# Altium footprint library TH Switches.PcbLib: 37 footprints (part 2 of 3)
Each footprint in its own frame and in the unit in brackets; x right, y up, seen from the top. Pads: shape width x height; smd on the part's side, far side on the other; paste and mask are expansions set on the pad; w line width, h text height; cw(c..) or ccw(c..) is an arc to the next point about the centre after c.
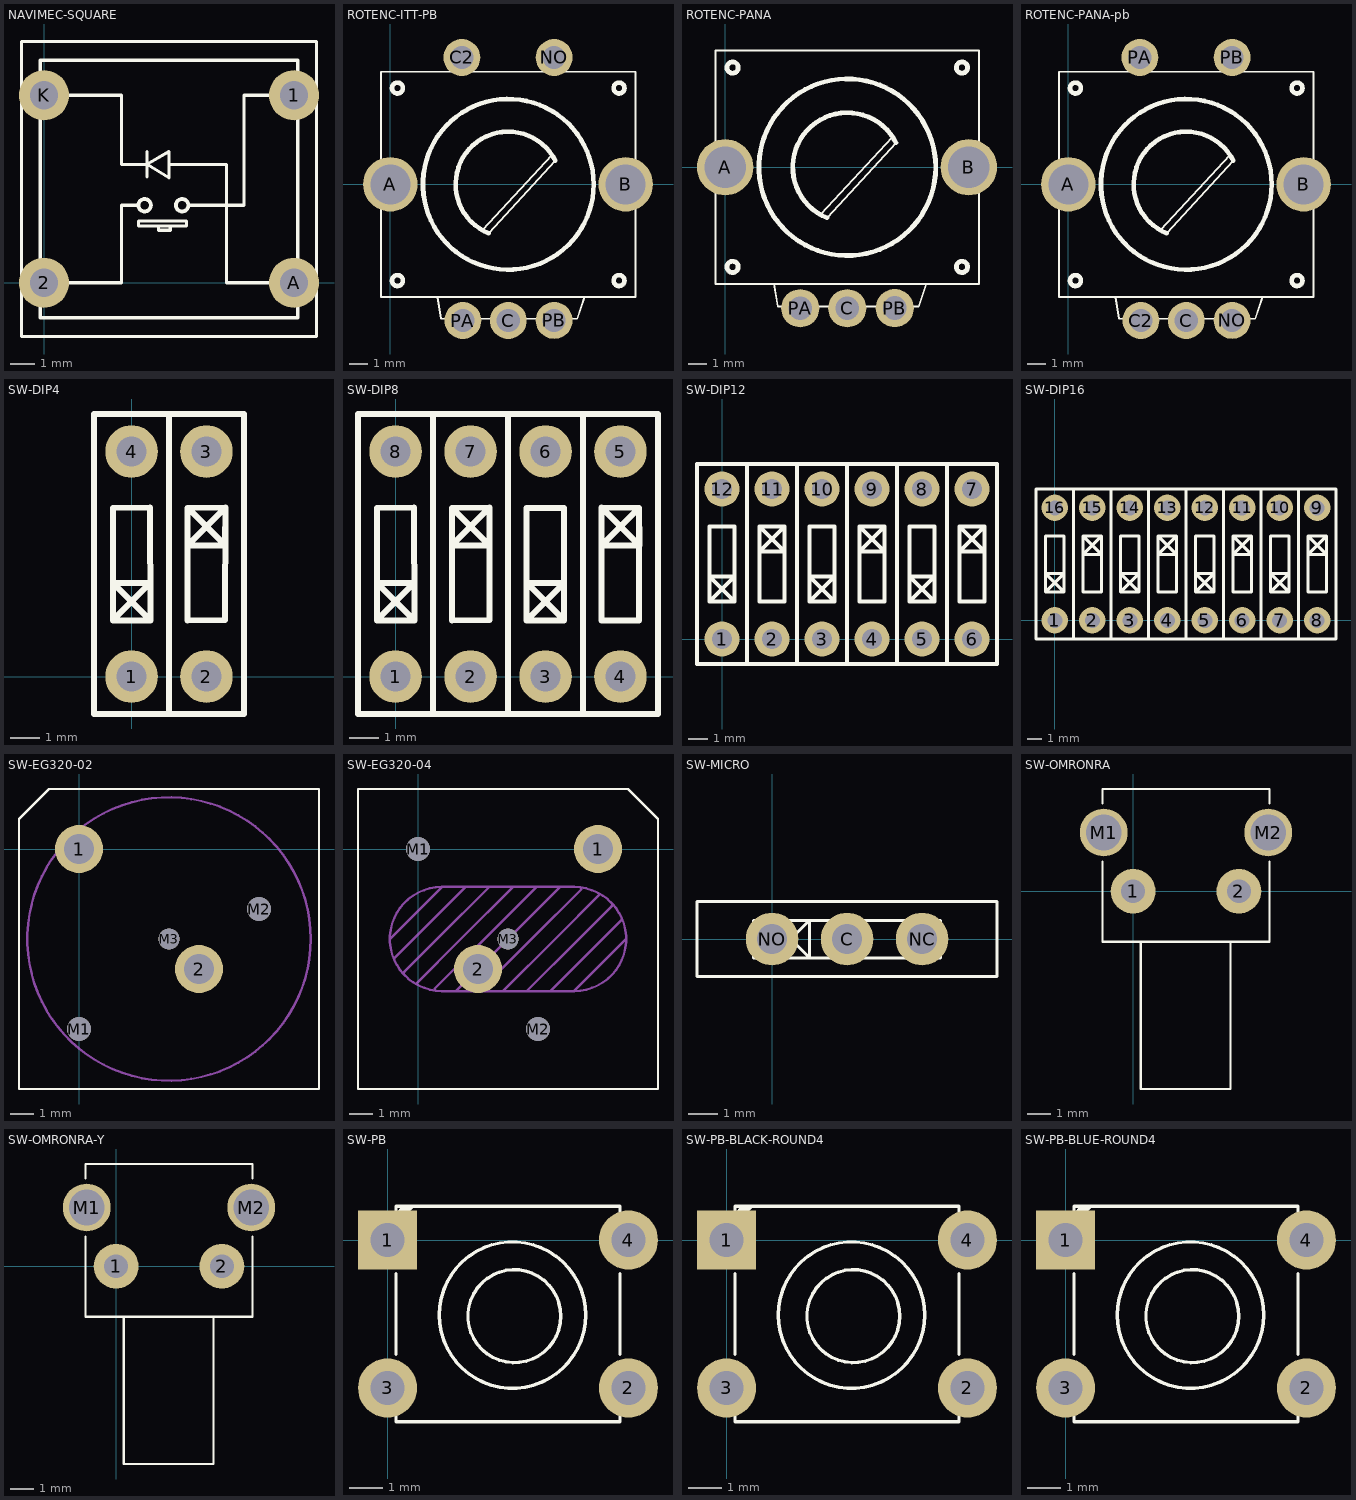
[diagram p1: the footprints below, top view; thin cyan lines are the x and y axes]

## NAVIMEC-SQUARE [mil]
pads (4):
  round 80 hole 45: 1(400,300) 2(0,0) A(400,0) K(0,300)
Top Overlay:
  circle w6: c161,124 r10
  circle w6: c221,124 r10
  lines w5: 0,0 124,0 124,124 151,124 ; 0,300 124,300 124,189.5 165,189.5 ; 165,169 165,210 ; 183,90 183,84 202,84 202,90 ; 200,189 292,189 292,0 400,0 ; 231,124 320,124 320,300 400,300 ; 165,189.5 200,210 200,168 165,189.5 ; -36,-86 -36,386 436,386 436,-86 -36,-86 ; -6,-56 10,-56 403,-56 406,-56 406,-51 406,-40 406,353 406,356 390,356 -3,356 -6,356 -6,351 -6,340 -6,-53 -6,-56 ; 151,91 228,91 228,99 151,99 151,91
3D body: height 588.43, standoff -153.54, extent -35.4,-88.4 439.4,386.4

## ROTENC-ITT-PB [mil]
pads (7):
  round 118.11 hole 86.61: A(0,0) B(510,0)
  round 80 hole 50: C(255.59,-295.28) C2(155,275) NO(355,275) PA(157.16,-295.28) PB(355,-295)
Top Overlay:
  circle w10: c495.75,-208.66 r11.81
  circle w10: c15.43,-208.66 r11.81
  circle w10: c495.75,208.66 r11.81
  circle w10: c15.43,208.66 r11.81
  circle w10: c255.59,0 r185.04
  lines w4: -20,0 -20,244.09 ; 102.05,-244.09 109.92,-291.34 405.2,-291.34 420.94,-244.09 ; 200.47,-98.43 350.08,62.99 ; 213.19,-106.01 357.71,51.06 ; -20,244.09 -20,-244.09 531.18,-244.09 531.18,244.09 -20,244.09
  lines w10: 213.19,-106.01 cw(c255.59,0) 357.71,51.06

## ROTENC-PANA [mil]
pads (5):
  round 118.11 hole 86.61: A(0,0) B(510,0)
  round 80 hole 50: C(255.59,-295.28) PA(157.16,-295.28) PB(355,-295)
Top Overlay:
  circle w10: c255.59,0 r185.04
  circle w10: c15.43,208.66 r11.81
  circle w10: c495.75,208.66 r11.81
  circle w10: c15.43,-208.66 r11.81
  circle w10: c495.75,-208.66 r11.81
  lines w4: -20,0 -20,244.09 ; 102.05,-244.09 109.92,-291.34 405.2,-291.34 420.94,-244.09 ; 200.47,-98.43 350.08,62.99 ; 213.19,-106.01 357.71,51.06 ; -20,244.09 531.18,244.09 531.18,-244.09 -20,-244.09 -20,244.09
  lines w10: 213.19,-106.01 cw(c255.59,0) 357.71,51.06

## ROTENC-PANA-pb [mil]
pads (7):
  round 118.11 hole 86.61: A(0,0) B(510,0)
  round 80 hole 50: C(255.59,-295.28) C2(157.16,-295.28) NO(355,-295) PA(155,275) PB(355,275)
Top Overlay:
  circle w10: c495.75,-208.66 r11.81
  circle w10: c15.43,-208.66 r11.81
  circle w10: c495.75,208.66 r11.81
  circle w10: c15.43,208.66 r11.81
  circle w10: c255.59,0 r185.04
  lines w4: -20,0 -20,244.09 ; 102.05,-244.09 109.92,-291.34 405.2,-291.34 420.94,-244.09 ; 200.47,-98.43 350.08,62.99 ; 213.19,-106.01 357.71,51.06 ; -20,244.09 -20,-244.09 531.18,-244.09 531.18,244.09 -20,244.09
  lines w10: 213.19,-106.01 cw(c255.59,0) 357.71,51.06

## SW-DIP4 [mil] "DIP SWITCH DIP4"
pads (4):
  round 70 hole 40: 1(0,0) 2(100,0) 3(100,300) 4(0,300)
Top Overlay:
  lines w8: 50,-50 50,350 ; -25,75 25,75 ; -25,75 -25,225 25,225 25,75 ; -25,75 -25,125 ; -25,75 25,125 -25,125 ; -25,75 -25,125 ; -25,125 25,75 ; 75,225 75,75 125,75 125,225 ; 75,225 125,225 ; 75,225 125,175 ; 125,175 75,175 125,225 ; 125,175 125,225 ; 150,-50 -50,-50 -50,350 150,350 ; 150,-50 150,350 ; 150,-50 150,350
3D body: height 150, standoff 0, extent -50,-50 150,350
3D body: height 151, standoff 0, extent -25,75 25,225
3D body: height 200, standoff 0, extent -50,-50 150,75
3D body: height 200, standoff 0, extent -50,225 150,350
3D body: height 200, standoff 0, extent 25,75 75,225
3D body: height 200, standoff 0, extent -50,75 -25,225
3D body: height 200, standoff 0, extent 125,75 150,225
3D body: height 151, standoff 0, extent 75,75 125,225
3D body: height 250, standoff 50, extent -25,75 25,125
3D body: height 250, standoff 50, extent 75,175 125,225
3D body: height 201, standoff 200, extent -20.49,255 30.49,330.98
3D body: height 201, standoff 200, extent 55,255.49 105,330.49

## SW-DIP8 [mil]
pads (8):
  round 70 hole 40: 1(0,0) 2(100,0) 3(200,0) 4(300,0) 5(300,300) 6(200,300) 7(100,300) 8(0,300)
Top Overlay:
  lines w8: 50,-50 50,350 ; 250,-50 250,350 ; -25,75 -25,125 ; -25,75 25,125 -25,125 ; -25,75 -25,125 ; -25,75 -25,225 25,225 25,75 ; -25,75 25,75 ; -25,125 25,75 ; 75,225 125,175 ; 75,225 125,225 ; 75,225 75,75 125,75 125,225 ; 125,175 125,225 ; 125,175 75,175 125,225 ; 150,-50 150,350 ; 150,-50 350,-50 ; 150,-50 150,350 ; 150,-50 -50,-50 -50,350 150,350 ; 150,350 350,350 ; 175,75 175,125 ; 175,75 225,125 175,125 ; 175,75 175,125 ; 175,75 175,225 225,225 225,75 ; 175,75 225,75 ; 175,125 225,75 ; 275,225 325,175 ; 275,225 325,225 ; 275,225 275,75 325,75 325,225 ; 325,175 325,225 ; 325,175 275,175 325,225 ; 350,-50 350,350 ; 350,-50 350,350
3D body: height 201, standoff 200, extent 55,255.49 105,330.49
3D body: height 201, standoff 200, extent -20.49,255 30.49,330.98
3D body: height 250, standoff 50, extent 175,75 225,125
3D body: height 250, standoff 50, extent 275,175 325,225
3D body: height 250, standoff 50, extent 75,175 125,225
3D body: height 250, standoff 50, extent -25,75 25,125
3D body: height 151, standoff 0, extent 275,75 325,225
3D body: height 200, standoff 0, extent 325,75 350,225
3D body: height 151, standoff 0, extent 175,75 225,225
3D body: height 200, standoff 0, extent 225,75 275,225
3D body: height 151, standoff 0, extent 75,75 125,225
3D body: height 200, standoff 0, extent 125,75 175,225
3D body: height 200, standoff 0, extent -50,75 -25,225
3D body: height 200, standoff 0, extent 25,75 75,225
3D body: height 200, standoff 0, extent -50,225 350,350
3D body: height 200, standoff 0, extent -50,-50 350,75
3D body: height 151, standoff 0, extent -25,75 25,225
3D body: height 150, standoff 0, extent -50,-50 350,350

## SW-DIP12 [mil]
pads (12):
  round 70 hole 40: 1(0,0) 2(100,0) 3(200,0) 4(300,0) 5(400,0) 6(500,0) 7(500,300) 8(400,300) 9(300,300) 10(200,300) 11(100,300) 12(0,300)
Top Overlay:
  lines w8: 50,-50 50,350 ; 250,-50 250,350 ; 450,-50 450,350 ; -25,75 25,75 ; -25,75 -25,225 25,225 25,75 ; -25,75 -25,125 ; -25,75 25,125 -25,125 ; -25,75 -25,125 ; -25,125 25,75 ; 75,225 75,75 125,75 125,225 ; 75,225 125,225 ; 75,225 125,175 ; 125,175 75,175 125,225 ; 125,175 125,225 ; 150,-50 -50,-50 -50,350 150,350 ; 150,-50 150,350 ; 150,-50 350,-50 ; 150,-50 150,350 ; 150,350 350,350 ; 175,75 225,75 ; 175,75 175,225 225,225 225,75 ; 175,75 175,125 ; 175,75 225,125 175,125 ; 175,75 175,125 ; 175,125 225,75 ; 275,225 275,75 325,75 325,225 ; 275,225 325,225 ; 275,225 325,175 ; 325,175 275,175 325,225 ; 325,175 325,225 ; 350,-50 350,350 ; 350,-50 550,-50 ; 350,-50 350,350 ; 350,350 550,350 ; 375,75 425,75 ; 375,75 375,225 425,225 425,75 ; 375,75 375,125 ; 375,75 425,125 375,125 ; 375,75 375,125 ; 375,125 425,75 ; 475,225 475,75 525,75 525,225 ; 475,225 525,225 ; 475,225 525,175 ; 525,175 475,175 525,225 ; 525,175 525,225 ; 550,-50 550,350 ; 550,-50 550,350
3D body: height 150, standoff 0, extent -50,-50 550,350
3D body: height 151, standoff 0, extent -25,75 25,225
3D body: height 200, standoff 0, extent -50,-50 550,75
3D body: height 200, standoff 0, extent -50,225 550,350
3D body: height 200, standoff 0, extent 25,75 75,225
3D body: height 200, standoff 0, extent -50,75 -25,225
3D body: height 200, standoff 0, extent 125,75 175,225
3D body: height 151, standoff 0, extent 75,75 125,225
3D body: height 200, standoff 0, extent 225,75 275,225
3D body: height 151, standoff 0, extent 175,75 225,225
3D body: height 200, standoff 0, extent 325,75 375,225
3D body: height 151, standoff 0, extent 275,75 325,225
3D body: height 200, standoff 0, extent 425,75 475,225
3D body: height 151, standoff 0, extent 375,75 425,225
3D body: height 200, standoff 0, extent 525,75 550,225
3D body: height 151, standoff 0, extent 475,75 525,225
3D body: height 250, standoff 50, extent -25,75 25,125
3D body: height 250, standoff 50, extent 75,175 125,225
3D body: height 250, standoff 50, extent 275,175 325,225
3D body: height 250, standoff 50, extent 175,75 225,125
3D body: height 250, standoff 50, extent 475,175 525,225
3D body: height 250, standoff 50, extent 375,75 425,125
3D body: height 201, standoff 200, extent -20.49,255 30.49,330.98
3D body: height 201, standoff 200, extent 55,255.49 105,330.49

## SW-DIP16 [mil]
pads (16):
  round 70 hole 40: 1(0,0) 2(100,0) 3(200,0) 4(300,0) 5(400,0) 6(500,0) 7(600,0) 8(700,0) 9(700,300) 10(600,300) 11(500,300) 12(400,300) 13(300,300) 14(200,300) 15(100,300) 16(0,300)
Top Overlay:
  lines w8: 50,-50 50,350 ; 250,-50 250,350 ; 450,-50 450,350 ; 650,-50 650,350 ; -25,75 25,75 ; -25,75 -25,225 25,225 25,75 ; -25,75 -25,125 ; -25,75 25,125 -25,125 ; -25,75 -25,125 ; -25,125 25,75 ; 75,225 75,75 125,75 125,225 ; 75,225 125,225 ; 75,225 125,175 ; 125,175 75,175 125,225 ; 125,175 125,225 ; 150,-50 -50,-50 -50,350 150,350 ; 150,-50 150,350 ; 150,-50 350,-50 ; 150,-50 150,350 ; 150,350 350,350 ; 175,75 225,75 ; 175,75 175,225 225,225 225,75 ; 175,75 175,125 ; 175,75 225,125 175,125 ; 175,75 175,125 ; 175,125 225,75 ; 275,225 275,75 325,75 325,225 ; 275,225 325,225 ; 275,225 325,175 ; 325,175 275,175 325,225 ; 325,175 325,225 ; 350,-50 350,350 ; 350,-50 550,-50 ; 350,-50 350,350 ; 350,350 550,350 ; 375,75 425,75 ; 375,75 375,225 425,225 425,75 ; 375,75 375,125 ; 375,75 425,125 375,125 ; 375,75 375,125 ; 375,125 425,75 ; 475,225 475,75 525,75 525,225 ; 475,225 525,225 ; 475,225 525,175 ; 525,175 475,175 525,225 ; 525,175 525,225 ; 550,-50 550,350 ; 550,-50 750,-50 750,350 550,350 ; 550,-50 550,350 ; 575,75 625,75 ; 575,75 575,225 625,225 625,75 ; 575,75 575,125 ; 575,75 625,125 575,125 ; 575,75 575,125 ; 575,125 625,75 ; 675,225 675,75 725,75 725,225 ; 675,225 725,225 ; 675,225 725,175 ; 725,175 675,175 725,225 ; 725,175 725,225
3D body: height 150, standoff 0, extent -50,-50 750,350
3D body: height 151, standoff 0, extent -25,75 25,225
3D body: height 200, standoff 0, extent -50,-50 750,75
3D body: height 200, standoff 0, extent -50,225 750,350
3D body: height 200, standoff 0, extent 25,75 75,225
3D body: height 200, standoff 0, extent -50,75 -25,225
3D body: height 200, standoff 0, extent 125,75 175,225
3D body: height 151, standoff 0, extent 75,75 125,225
3D body: height 200, standoff 0, extent 225,75 275,225
3D body: height 151, standoff 0, extent 175,75 225,225
3D body: height 200, standoff 0, extent 325,75 375,225
3D body: height 151, standoff 0, extent 275,75 325,225
3D body: height 200, standoff 0, extent 425,75 475,225
3D body: height 151, standoff 0, extent 375,75 425,225
3D body: height 200, standoff 0, extent 525,75 575,225
3D body: height 151, standoff 0, extent 475,75 525,225
3D body: height 200, standoff 0, extent 625,75 675,225
3D body: height 151, standoff 0, extent 575,75 625,225
3D body: height 200, standoff 0, extent 725,75 750,225
3D body: height 151, standoff 0, extent 675,75 725,225
3D body: height 250, standoff 50, extent -25,75 25,125
3D body: height 250, standoff 50, extent 75,175 125,225
3D body: height 250, standoff 50, extent 275,175 325,225
3D body: height 250, standoff 50, extent 175,75 225,125
3D body: height 250, standoff 50, extent 475,175 525,225
3D body: height 250, standoff 50, extent 375,75 425,125
3D body: height 250, standoff 50, extent 675,175 725,225
3D body: height 250, standoff 50, extent 575,75 625,125
3D body: height 201, standoff 200, extent -20.49,255 30.49,330.98
3D body: height 201, standoff 200, extent 55,255.49 105,330.49

## SW-EG320-02 [mil]
pads (5):
  round 80 hole 50: 1(0,0) 2(200,-200)
  round 40 hole 40 unplated: M1(0,-300) M2(300,-100)
  round 35 hole 35 unplated: M3(150,-150)
Top Overlay:
  lines w4: -100,-400 -100,0 -100,50 -50,100 400,100 400,50 400,-400 -100,-400
Mechanical 1:
  circle w4: c150,-150 r236.22

## SW-EG320-04 [mil]
pads (5):
  round 80 hole 50: 1(299.61,0.39) 2(99.61,-199.61)
  round 40 hole 40 unplated: M1(-0.39,0.39) M2(199.61,-299.61)
  round 35 hole 35 unplated: M3(149.61,-149.61)
Top Overlay:
  lines w4: -100.39,-399.61 349.61,-399.61 399.61,-399.61 399.61,50.39 349.61,100.39 299.61,100.39 -100.39,100.39 -100.39,-399.61
Mechanical 1:
  lines w4: -47.24,-149.61 39.55,-62.81 ; -39.37,-181.1 -7.87,-149.61 78.92,-62.81 ; -23.62,-204.72 31.5,-149.61 118.29,-62.81 ; -3.94,-224.41 70.87,-149.61 157.66,-62.81 ; 27.56,-232.28 110.24,-149.61 197.03,-62.81 ; 39.37,-236.22 cw(c39.37,-149.52) 39.37,-62.81 259.84,-62.81 ; 62.99,-236.22 149.61,-149.61 236.22,-62.99 ; 102.18,-236.4 188.98,-149.61 271.65,-66.93 ; 141.55,-236.4 228.35,-149.61 303.15,-74.8 ; 180.92,-236.4 267.72,-149.61 322.83,-94.49 ; 220.29,-236.4 307.09,-149.61 338.58,-118.11 ; 259.66,-236.4 346.46,-149.61 ; 259.84,-62.99 cw(c259.84,-149.7) 259.84,-236.4 ; 259.84,-236.4 39.37,-236.4 259.84,-236.4

## SW-MICRO [mil]
pads (3):
  round 70 hole 40: C(100,0) NC(200,0) NO(0,0)
Top Overlay:
  lines w4: -100,0 -100,50 300,50 300,-50 -100,-50 -100,25 ; 0,-25 0,25 ; 0,-25 50,25 50,-25 ; 0,-25 50,-25 ; 0,-25 0,25 ; 0,25 50,-25 ; -25,-25 225,-25 225,25 -25,25 -25,-25

## SW-OMRONRA [mil]
pads (4):
  round 75 hole 40: 1(0,0) 2(177.16,0)
  round 80 hole 60: M1(-49.21,98.42) M2(226.38,98.42)
Top Overlay:
  lines w4: -51.18,49.21 -51.18,-84.65 228.35,-84.65 228.35,49.21 ; -51.18,147.64 -51.18,171.26 88.58,171.26 228.35,171.26 228.35,147.64 ; 13,-84.65 13,-331 163,-331 163,-84.65
3D body: height 254.82, standoff 75.18, extent -1.64,-398 177.64,-181
3D body: height 283, standoff -135, extent -86.8,-248 264.79,160

## SW-OMRONRA-Y [mil]
pads (4):
  round 75 hole 40: 1(0,0) 2(177.16,0)
  round 80 hole 60: M1(-49.21,98.42) M2(226.38,98.42)
Top Overlay:
  lines w4: -51.18,49.21 -51.18,-84.65 228.35,-84.65 228.35,49.21 ; -51.18,147.64 -51.18,171.26 88.58,171.26 228.35,171.26 228.35,147.64 ; 13,-84.65 13,-331 163,-331 163,-84.65
3D body: height 254.82, standoff 75.18, extent -1.64,-398 177.64,-181
3D body: height 283, standoff -135, extent -86.8,-248 264.79,160

## SW-PB [mil]
pads (4):
  rect 70x70 hole 40: 1(0,0)
  round 70 hole 40: 2(285,-175) 3(0,-175) 4(285,0)
Top Overlay:
  circle w4: c150,-90 r55
  circle w4: c147.79,-88.74 r86.61
  lines w4: 10,-195 10,-215 275,-215 275,-195 ; 10,-135 10,-40 ; 275,-135 275,-40 ; 275,20 275,40 10,40 ; 10,20 10,25 25,40 ; 10,20 10,30 ; 10,20 30,40 ; 10,20 10,30 ; 10,20 10,40 ; 10,30 20,40 ; 10,40 30,40 ; 10,40 20,40 ; 20,40 25,40 ; 25,40 30,40 ; 25,40 30,40
3D body: height 138, standoff 0, extent 15,-215.5 270,39.5
3D body: height 140, standoff 138, extent 15,-215 270,40
3D body: height 150, standoff 140, extent 202.16,-194.96 242,-155.04
3D body: height 180, standoff 140, extent 67,-168.84 226.37,-9.16
3D body: height 287, standoff 0, extent 123.75,-114 174.25,-64
3D body: height 150, standoff 140, extent 43,-194.96 82.84,-155.04
3D body: height 150, standoff 140, extent 43,-19.96 82.84,19.96
3D body: height 150, standoff 140, extent 202.16,-19.96 242,19.96
3D body: height 80, standoff -100, extent -6,-191 6,-158
3D body: height 80, standoff -100, extent -6,-16 6,17
3D body: height 80, standoff -100, extent 279,-16 291,17
3D body: height 80, standoff -100, extent 279,-191 291,-158
3D body: height 80, standoff 60, extent 265,-191 279,-158
3D body: height 80, standoff 60, extent 265,-16 279,17
3D body: height 80, standoff 60, extent 6,-16 20,17
3D body: height 80, standoff 60, extent 6,-191 20,-158

## SW-PB-BLACK-ROUND4 [mil]
pads (4):
  rect 70x70 hole 40: 1(0,0)
  round 70 hole 40: 2(285,-175) 3(0,-175) 4(285,0)
Top Overlay:
  circle w4: c150,-90 r55
  circle w4: c147.79,-88.74 r86.61
  lines w4: 10,-195 10,-215 275,-215 275,-195 ; 10,-135 10,-40 ; 275,-135 275,-40 ; 275,20 275,40 10,40 ; 10,20 10,25 25,40 ; 10,20 10,30 ; 10,20 30,40 ; 10,20 10,30 ; 10,20 10,40 ; 10,30 20,40 ; 10,40 30,40 ; 10,40 20,40 ; 20,40 25,40 ; 25,40 30,40 ; 25,40 30,40
3D body: height 138, standoff 0, extent 15,-215.5 270,39.5
3D body: height 145, standoff 138, extent 15,-215 270,40
3D body: height 160, standoff 140, extent 202.16,-194.96 242,-155.04
3D body: height 180, standoff 140, extent 67,-168.84 226.37,-9.16
3D body: height 287, standoff 0, extent 115,-125 185,-55
3D body: height 160, standoff 140, extent 43,-194.96 82.84,-155.04
3D body: height 160, standoff 140, extent 43,-19.96 82.84,19.96
3D body: height 160, standoff 140, extent 202.16,-19.96 242,19.96
3D body: height 80, standoff -100, extent -6,-191 6,-158
3D body: height 80, standoff -100, extent -6,-16 6,17
3D body: height 80, standoff -100, extent 279,-16 291,17
3D body: height 80, standoff -100, extent 279,-191 291,-158
3D body: height 80, standoff 60, extent 265,-191 279,-158
3D body: height 80, standoff 60, extent 265,-16 279,17
3D body: height 80, standoff 60, extent 6,-16 20,17
3D body: height 80, standoff 60, extent 6,-191 20,-158
3D body: height 417, standoff 200, extent 58,-178 237.29,1.64

## SW-PB-BLUE-ROUND4 [mil]
pads (4):
  rect 70x70 hole 40: 1(0,0)
  round 70 hole 40: 2(285,-175) 3(0,-175) 4(285,0)
Top Overlay:
  circle w4: c150,-90 r55
  circle w4: c147.79,-88.74 r86.61
  lines w4: 10,-195 10,-215 275,-215 275,-195 ; 10,-135 10,-40 ; 275,-135 275,-40 ; 275,20 275,40 10,40 ; 10,20 10,25 25,40 ; 10,20 10,30 ; 10,20 30,40 ; 10,20 10,30 ; 10,20 10,40 ; 10,30 20,40 ; 10,40 30,40 ; 10,40 20,40 ; 20,40 25,40 ; 25,40 30,40 ; 25,40 30,40
3D body: height 138, standoff 0, extent 15,-215.5 270,39.5
3D body: height 145, standoff 138, extent 15,-215 270,40
3D body: height 160, standoff 140, extent 202.16,-194.96 242,-155.04
3D body: height 180, standoff 140, extent 67,-168.84 226.37,-9.16
3D body: height 287, standoff 0, extent 115,-125 185,-55
3D body: height 160, standoff 140, extent 43,-194.96 82.84,-155.04
3D body: height 160, standoff 140, extent 43,-19.96 82.84,19.96
3D body: height 160, standoff 140, extent 202.16,-19.96 242,19.96
3D body: height 80, standoff -100, extent -6,-191 6,-158
3D body: height 80, standoff -100, extent -6,-16 6,17
3D body: height 80, standoff -100, extent 279,-16 291,17
3D body: height 80, standoff -100, extent 279,-191 291,-158
3D body: height 80, standoff 60, extent 265,-191 279,-158
3D body: height 80, standoff 60, extent 265,-16 279,17
3D body: height 80, standoff 60, extent 6,-16 20,17
3D body: height 80, standoff 60, extent 6,-191 20,-158
3D body: height 417, standoff 200, extent 58,-178 237.29,1.64